# EAGLE library part DUE(NOMID) (library ScouseTom_New)
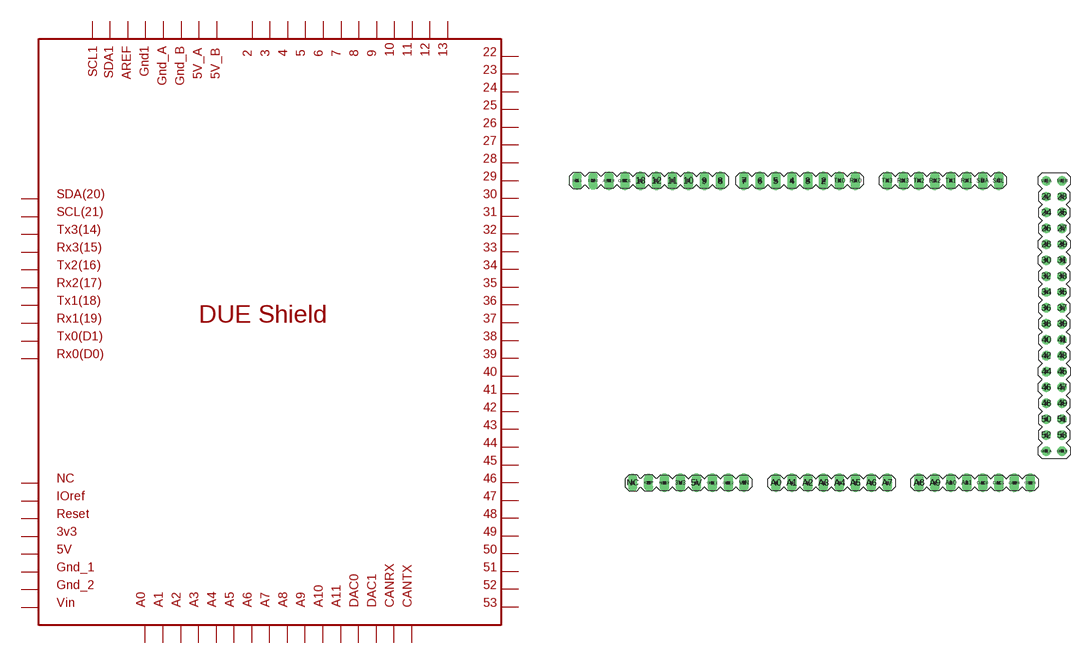
[diagram p5: symbol with the pads of DUE(NOMID); footprint DUE(NOMID)]

Designator prefix ARD

## DUE(NOMID)  [DUE(NOMID)]
2  2
3  3
3V3  3V3
4  4
5  5
5V  5V
5V_A  5V_A
5V_B  5V_B
6  6
7  7
8  8
9  9
10  10
11  11
12  12
13  13
22  22
23  23
24  24
25  25
26  26
27  27
28  28
29  29
30  30
31  31
32  32
33  33
34  34
35  35
36  36
37  37
38  38
39  39
40  40
41  41
42  42
43  43
44  44
45  45
46  46
47  47
48  48
49  49
50  50
51  51
52  52
53  53
A0  A0
A1  A1
A2  A2
A3  A3
A4  A4
A5  A5
A6  A6
A7  A7
A8  A8
A9  A9
A10  A10
A11  A11
AREF  AREF
CANRX  CANRX
CANTX  CANTX
DAC0  DAC0
DAC1  DAC1
GND1  GND1
GND_1  GND_1
GND_2  GND_2
GND_A  GND_A
GND_B  GND_B
IOREF  IOREF
NC  NC
RESET  RESET
RX0  RX0
RX1  RX1
RX2  RX2
RX3  RX3
SCL  SCL
SCL1  SCL1
SDA  SDA
SDA1  SDA1
TX0  TX0
TX1  TX1
TX2  TX2
TX3  TX3
VIN  VIN

## Footprint DUE(NOMID) (pad centres in mm)
drill 1 long: 2 -5.08,25.4; 3 -7.62,25.4; 3V3 -27.94,-22.86; 4 -10.16,25.4; 5 -12.7,25.4; 5V -25.4,-22.86; 6 -15.24,25.4; 7 -17.78,25.4; 8 -21.59,25.4; 9 -24.13,25.4; 10 -26.67,25.4; 11 -29.21,25.4; 12 -31.75,25.4; 13 -34.29,25.4; A0 -12.7,-22.86; A1 -10.16,-22.86; A2 -7.62,-22.86; A3 -5.08,-22.86; A4 -2.54,-22.86; A5 0,-22.86; A6 2.54,-22.86; A7 5.08,-22.86; A8 10.16,-22.86; A9 12.7,-22.86; A10 15.24,-22.86; A11 17.78,-22.86; AREF -39.37,25.4; CANRX 25.4,-22.86; CANTX 27.94,-22.86; DAC0 20.32,-22.86; DAC1 22.86,-22.86; GND1 -36.83,25.4; GND_1 -22.86,-22.86; GND_2 -20.32,-22.86; RESET -30.48,-22.86; RX0 0,25.4; RX1 17.78,25.4; RX2 12.7,25.4; RX3 7.62,25.4; SCL 22.86,25.4; SDA 20.32,25.4; TX0 -2.54,25.4; TX1 15.24,25.4; TX2 10.16,25.4; TX3 5.08,25.4; VIN -17.78,-22.86
drill 1: 5V_A 30.48,25.4; 5V_B 33.02,25.4; 22 30.48,22.86; 23 33.02,22.86; 24 30.48,20.32; 25 33.02,20.32; 26 30.48,17.78; 27 33.02,17.78; 28 30.48,15.24; 29 33.02,15.24; 30 30.48,12.7; 31 33.02,12.7; 32 30.48,10.16; 33 33.02,10.16; 34 30.48,7.62; 35 33.02,7.62; 36 30.48,5.08; 37 33.02,5.08; 38 30.48,2.54; 39 33.02,2.54; 40 30.48,0; 41 33.02,0; 42 30.48,-2.54; 43 33.02,-2.54; 44 30.48,-5.08; 45 33.02,-5.08; 46 30.48,-7.62; 47 33.02,-7.62; 48 30.48,-10.16; 49 33.02,-10.16; 50 30.48,-12.7; 51 33.02,-12.7; 52 30.48,-15.24; 53 33.02,-15.24; GND_A 30.48,-17.78; GND_B 33.02,-17.78
drill 0.8 pad 1.422 long: IOREF -33.02,-22.86; NC -35.56,-22.86; SCL1 -44.45,25.4; SDA1 -41.91,25.4